# EAGLE library part TU35-D400 (library Jupiter_12_TU35-D400)
Navman Jupiter 12 GPS Receiver TU35-D410 and TU35-D420 Series
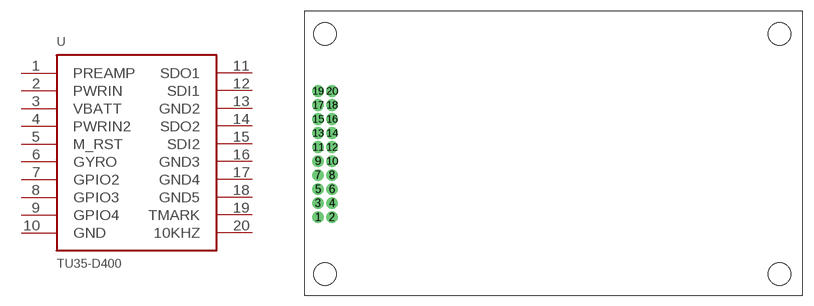
[diagram p0: symbol with the pads of TU35-D400; footprint TU35-D400]

Designator prefix -

## TU35-D400  [TU35-D400]
1  PREAMP
2  PWRIN
3  VBATT
4  PWRIN2
5  M_RST
6  GYRO
7  GPIO2
8  GPIO3
9  GPIO4
10  GND
11  SDO1
12  SDI1
13  GND2
14  SDO2
15  SDI2
16  GND3
17  GND4
18  GND5
19  TMARK
20  10KHZ

## Footprint TU35-D400 (pad centres in mm)
drill 1.016 pad 1.676: 1 -32.29,-9.18; 2 -30.29,-9.18; 3 -32.29,-7.18; 4 -30.29,-7.18; 5 -32.29,-5.18; 6 -30.29,-5.18; 7 -32.29,-3.18; 8 -30.29,-3.18; 9 -32.29,-1.18; 10 -30.29,-1.18; 11 -32.29,0.82; 12 -30.29,0.82; 13 -32.29,2.82; 14 -30.29,2.82; 15 -32.29,4.82; 16 -30.29,4.82; 17 -32.29,6.82; 18 -30.29,6.82; 19 -32.29,8.82; 20 -30.29,8.82
hole 3.2 at -31.29,-17.32
hole 3.2 at -31.29,16.97
hole 3.2 at 33.48,16.97
hole 3.2 at 33.48,-17.32